# Altium schematic symbol library DC847-BEC.SchLib: 1 symbol
Pins are listed as number, name and electrical type; pins without a type are passive.

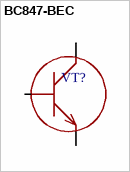
[diagram p0: symbol BC847-BEC]

## BC847-BEC
designator VT?
footprint SOT23-3
pins: 1 B, 2 E, 3 C